# Altium footprint library ArduinoNanoV30.PCBLIB: 1 footprints
Each footprint in its own frame and in the unit in brackets; x right, y up, seen from the top. Pads: shape width x height; smd on the part's side, far side on the other; paste and mask are expansions set on the pad; w line width, h text height; cw(c..) or ccw(c..) is an arc to the next point about the centre after c.
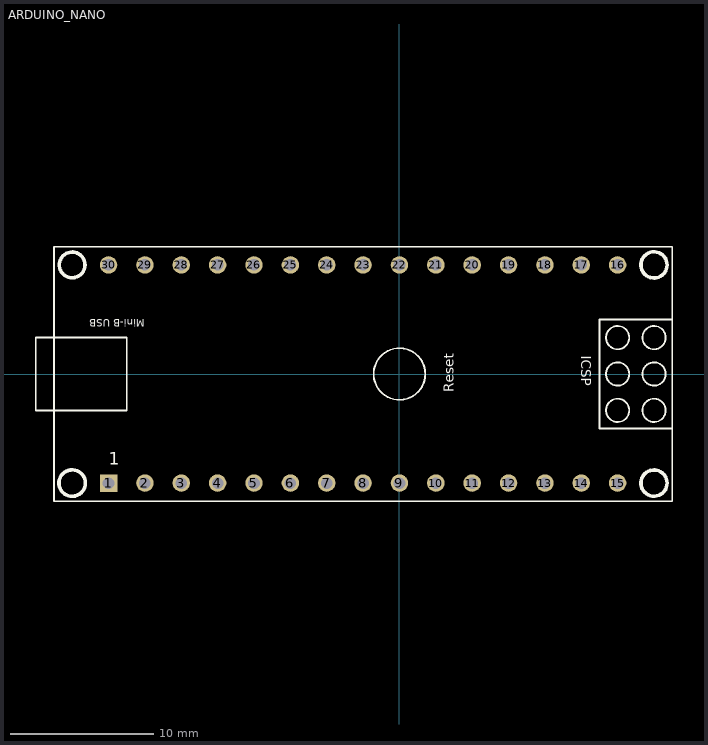
[diagram p0: the footprint, top view; thin cyan lines are the x and y axes]

## ARDUINO_NANO [mil]
pads (30):
  rect 48x48 hole 32: 1(-800,-300)
  round 48 hole 32: 2(-700,-300) 3(-600,-300) 4(-500,-300) 5(-400,-300) 6(-300,-300) 7(-200,-300) 8(-100,-300) 9(0,-300) 10(100,-300) 11(200,-300) 12(300,-300) 13(400,-300) 14(500,-300) 15(600,-300) 16(600,300) 17(500,300) 18(400,300) 19(300,300) 20(200,300) 21(100,300) 22(0,300) 23(-100,300) 24(-200,300) 25(-300,300) 26(-400,300) 27(-500,300) 28(-600,300) 29(-700,300) 30(-800,300)
Top Overlay:
  circle w10: c700,300 r36.06
  circle w10: c700,-300 r36.06
  circle w10: c-900,-300 r36.4
  circle w10: c-900,300 r35.36
  circle w5: c600,-100 r32
  circle w5: c600,0 r32
  circle w5: c700,0 r32
  circle w5: c600,100 r32
  circle w5: c700,100 r32
  circle w5: c700,0 r32
  circle w5: c700,-100 r32
  circle w5: c0,0 r71
  lines w5: -950,100 -750,100 -750,-100 -1000,-100 -1000,100 -950,100 ; -950,100 -950,350 750,350 750,150 ; -950,100 -950,-350 750,-350 750,-150 ; 750,-150 550,-150 550,150 750,150 ; 750,-150 750,150
  text "ICSP" at 500,50 h27.2
  text "Mini-B USB" at -700,150 h20.4
  text "1" at -800,-250 h34
  text "Reset" at 150,-50 h27.2